# Altium integrated library TI Power Management Supervisor and Reset IC.IntLib: 819 symbols (part 14 of 30)
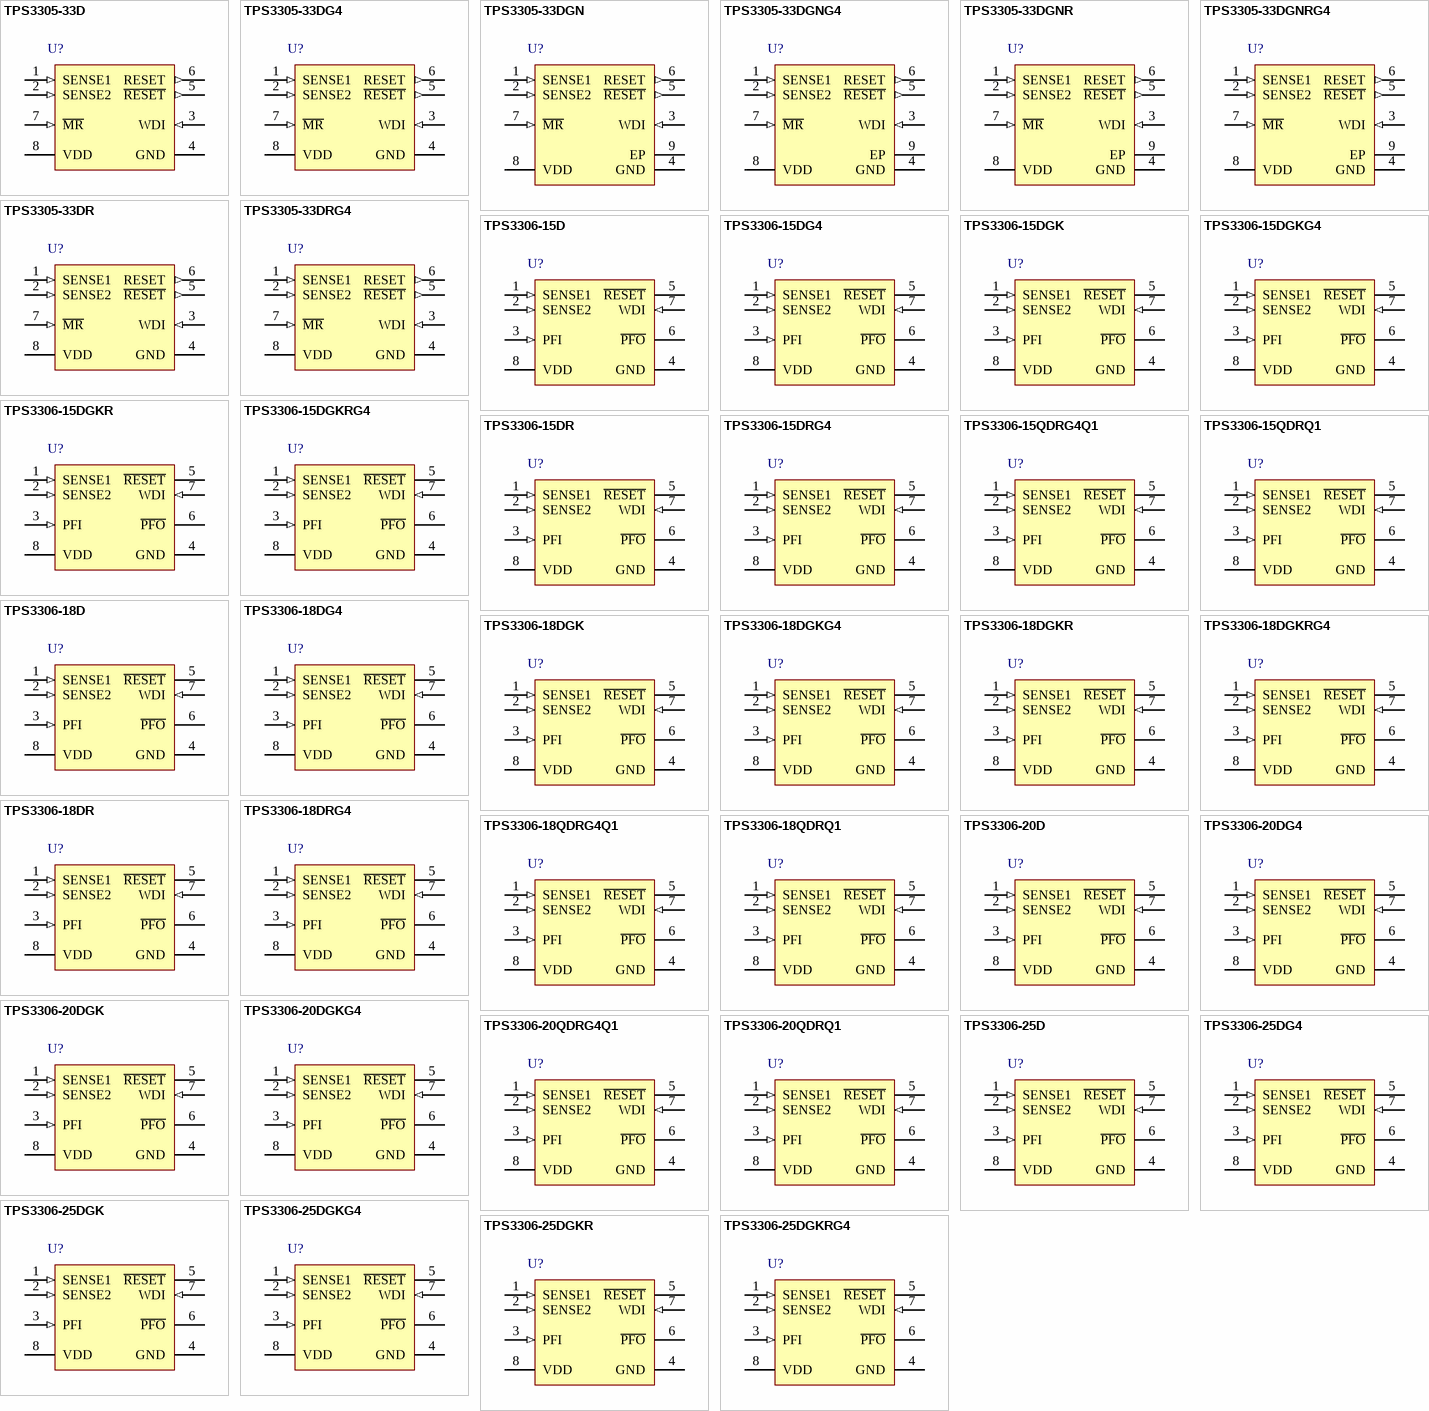
[diagram p34: symbols TPS3305-33D to TPS3306-25DGKRG4]

## TPS3306-18DG4
designator U?
Dual-Processor Supervisory Circuit with Power-Fail, 2 Supply Monitored, -40 to 85 degC, 8-pin SOIC (D), Green (RoHS & no Sb/Br); Manufacturer: Texas Instruments; PartNumber: TPS3306-18DG4; # of supplies monitored: 2; Iq(Typ)(uA): 15; Output Driver Type / Reset Output: Active-low, Open-drain; Rating: Catalog; Reset Threshold Accuracy(%): 2.7; SubFamily: Supervisor and Reset IC; Threshold Voltage 1 (typ)(Typ)(V): 2.93; Threshold Voltage 2 (typ)(Typ)(V): 1.68; Time Delay(ms): 100; VCC(Max)(V): 6; Watchdog Timer WDI(sec): 0.8; DatasheetVersion: SLVS290C; PackageVersion: revM, Jun-2011; PackageReference: D8; PackageDescription: 8-Pin Plastic Small Outline Integrated Circuit, 4.9 x 3.9 mm, Pitch 1.27 mm Pitch; Supplier 1: Digi-Key; Supplier Part Number 1: TPS3306-18DG4-ND; Supplier 2: Newark; Supplier Part Number 2: 33K7600; Supplier 3: Mouser; Supplier Part Number 3: 595-TPS3306-18DG4; VCC(Min)(V): 2.7; Mounting Technology: Surface Mount; Code_JEDEC: MS-012AA; ComponentLink1Description: Datasheet; ComponentLink1URL: http://www.ti.com/general/docs/lit/getliterature.tsp?genericPartNumber=TPS3306-18&fileType=pdf
footprint D8_N (SOIC, 8-Leads, Body 4.9x3.9mm, Pitch 1.27mm, IPC Medium Density)
footprint D8_L (SOIC, 8-Leads, Body 4.9x3.9mm, Pitch 1.27mm, IPC High Density)
footprint D8_M (SOIC, 8-Leads, Body 4.9x3.9mm, Pitch 1.27mm, IPC Low Density)
pins: 1 SENSE1 (in) "Sense voltage input 1", 2 SENSE2 (in) "Sense voltage input 2", 3 PFI (in) "Power-fail comparator input", 4 GND (power) "Ground", 5 ~{RESET} (oc) "Active-low reset output, open-drain", 6 ~{PFO} (oc) "Power-fail comparator output, open-drain", 7 WDI (in) "Watchdog timer input", 8 VDD (power) "Supply voltage"

## TPS3306-18DGK
designator U?
Dual-Processor Supervisory Circuit with Power-Fail, 2 Supply Monitored, -40 to 85 degC, 8-pin VSSOP (DGK), Green (RoHS & no Sb/Br); Manufacturer: Texas Instruments; PartNumber: TPS3306-18DGK; # of supplies monitored: 2; Iq(Typ)(uA): 15; Output Driver Type / Reset Output: Active-low, Open-drain; Rating: Catalog; Reset Threshold Accuracy(%): 2.7; SubFamily: Supervisor and Reset IC; Threshold Voltage 1 (typ)(Typ)(V): 2.93; Threshold Voltage 2 (typ)(Typ)(V): 1.68; Time Delay(ms): 100; VCC(Max)(V): 6; Watchdog Timer WDI(sec): 0.8; DatasheetVersion: SLVS290C; PackageVersion: revE, May-2006; PackageReference: DGK8; PackageDescription: 8-Pin Thin Small Outline Package 3 x 3 mm Body ,0.65 mm Pitch; Supplier 1: Digi-Key; Supplier Part Number 1: 296-3305-5-ND; Supplier 2: Newark; Supplier Part Number 2: 77C0309; Supplier 3: Mouser; Supplier Part Number 3: 595-TPS3306-18DGK; VCC(Min)(V): 2.7; Mounting Technology: Surface Mount; Code_JEDEC: MO-187-AA; ComponentLink1Description: Datasheet; ComponentLink1URL: http://www.ti.com/general/docs/lit/getliterature.tsp?genericPartNumber=TPS3306-18&fileType=pdf
footprint DGK8_N (TSOP, 8-Leads, Body 3x3mm, Pitch 0.65mm, IPC Medium Density)
footprint DGK8_L (TSOP, 8-Leads, Body 3x3mm, Pitch 0.65mm, IPC High Density)
footprint DGK8_M (TSOP, 8-Leads, Body 3x3mm, Pitch 0.65mm, IPC Low Density)
pins: 1 SENSE1 (in) "Sense voltage input 1", 2 SENSE2 (in) "Sense voltage input 2", 3 PFI (in) "Power-fail comparator input", 4 GND (power) "Ground", 5 ~{RESET} (oc) "Active-low reset output, open-drain", 6 ~{PFO} (oc) "Power-fail comparator output, open-drain", 7 WDI (in) "Watchdog timer input", 8 VDD (power) "Supply voltage"

## TPS3306-18DGKG4
designator U?
Dual-Processor Supervisory Circuit with Power-Fail, 2 Supply Monitored, -40 to 85 degC, 8-pin VSSOP (DGK), Green (RoHS & no Sb/Br); Manufacturer: Texas Instruments; PartNumber: TPS3306-18DGKG4; # of supplies monitored: 2; Iq(Typ)(uA): 15; Output Driver Type / Reset Output: Active-low, Open-drain; Rating: Catalog; Reset Threshold Accuracy(%): 2.7; SubFamily: Supervisor and Reset IC; Threshold Voltage 1 (typ)(Typ)(V): 2.93; Threshold Voltage 2 (typ)(Typ)(V): 1.68; Time Delay(ms): 100; VCC(Max)(V): 6; Watchdog Timer WDI(sec): 0.8; DatasheetVersion: SLVS290C; PackageVersion: revE, May-2006; PackageReference: DGK8; PackageDescription: 8-Pin Thin Small Outline Package 3 x 3 mm Body ,0.65 mm Pitch; Supplier 1: Digi-Key; Supplier Part Number 1: TPS3306-18DGKG4-ND; Supplier 2: Newark; Supplier Part Number 2: 54K1620; Supplier 3: Mouser; Supplier Part Number 3: 595-TPS3306-18DGKG4; VCC(Min)(V): 2.7; Mounting Technology: Surface Mount; Code_JEDEC: MO-187-AA; ComponentLink1Description: Datasheet; ComponentLink1URL: http://www.ti.com/general/docs/lit/getliterature.tsp?genericPartNumber=TPS3306-18&fileType=pdf
footprint DGK8_N (TSOP, 8-Leads, Body 3x3mm, Pitch 0.65mm, IPC Medium Density)
footprint DGK8_L (TSOP, 8-Leads, Body 3x3mm, Pitch 0.65mm, IPC High Density)
footprint DGK8_M (TSOP, 8-Leads, Body 3x3mm, Pitch 0.65mm, IPC Low Density)
pins: 1 SENSE1 (in) "Sense voltage input 1", 2 SENSE2 (in) "Sense voltage input 2", 3 PFI (in) "Power-fail comparator input", 4 GND (power) "Ground", 5 ~{RESET} (oc) "Active-low reset output, open-drain", 6 ~{PFO} (oc) "Power-fail comparator output, open-drain", 7 WDI (in) "Watchdog timer input", 8 VDD (power) "Supply voltage"

## TPS3306-18DGKR
designator U?
Dual-Processor Supervisory Circuit with Power-Fail, 2 Supply Monitored, -40 to 85 degC, 8-pin VSSOP (DGK), Green (RoHS & no Sb/Br); Manufacturer: Texas Instruments; PartNumber: TPS3306-18DGKR; # of supplies monitored: 2; Iq(Typ)(uA): 15; Output Driver Type / Reset Output: Active-low, Open-drain; Rating: Catalog; Reset Threshold Accuracy(%): 2.7; SubFamily: Supervisor and Reset IC; Threshold Voltage 1 (typ)(Typ)(V): 2.93; Threshold Voltage 2 (typ)(Typ)(V): 1.68; Time Delay(ms): 100; VCC(Max)(V): 6; Watchdog Timer WDI(sec): 0.8; DatasheetVersion: SLVS290C; PackageVersion: revE, May-2006; PackageReference: DGK8; PackageDescription: 8-Pin Thin Small Outline Package 3 x 3 mm Body ,0.65 mm Pitch; Supplier 1: Digi-Key; Supplier Part Number 1: TPS3306-18DGKR-ND; Supplier 2: Newark; Supplier Part Number 2: 77C0310; Supplier 3: Mouser; Supplier Part Number 3: 595-TPS3306-18DGKR; VCC(Min)(V): 2.7; Mounting Technology: Surface Mount; Code_JEDEC: MO-187-AA; ComponentLink1Description: Datasheet; ComponentLink1URL: http://www.ti.com/general/docs/lit/getliterature.tsp?genericPartNumber=TPS3306-18&fileType=pdf
footprint DGK8_N (TSOP, 8-Leads, Body 3x3mm, Pitch 0.65mm, IPC Medium Density)
footprint DGK8_L (TSOP, 8-Leads, Body 3x3mm, Pitch 0.65mm, IPC High Density)
footprint DGK8_M (TSOP, 8-Leads, Body 3x3mm, Pitch 0.65mm, IPC Low Density)
pins: 1 SENSE1 (in) "Sense voltage input 1", 2 SENSE2 (in) "Sense voltage input 2", 3 PFI (in) "Power-fail comparator input", 4 GND (power) "Ground", 5 ~{RESET} (oc) "Active-low reset output, open-drain", 6 ~{PFO} (oc) "Power-fail comparator output, open-drain", 7 WDI (in) "Watchdog timer input", 8 VDD (power) "Supply voltage"

## TPS3306-18DGKRG4
designator U?
Dual-Processor Supervisory Circuit with Power-Fail, 2 Supply Monitored, -40 to 85 degC, 8-pin VSSOP (DGK), Green (RoHS & no Sb/Br); Manufacturer: Texas Instruments; PartNumber: TPS3306-18DGKRG4; # of supplies monitored: 2; Iq(Typ)(uA): 15; Output Driver Type / Reset Output: Active-low, Open-drain; Rating: Catalog; Reset Threshold Accuracy(%): 2.7; SubFamily: Supervisor and Reset IC; Threshold Voltage 1 (typ)(Typ)(V): 2.93; Threshold Voltage 2 (typ)(Typ)(V): 1.68; Time Delay(ms): 100; VCC(Max)(V): 6; Watchdog Timer WDI(sec): 0.8; DatasheetVersion: SLVS290C; PackageVersion: revE, May-2006; PackageReference: DGK8; PackageDescription: 8-Pin Thin Small Outline Package 3 x 3 mm Body ,0.65 mm Pitch; Supplier 1: Digi-Key; Supplier Part Number 1: TPS3306-18DGKRG4-ND; Supplier 2: Newark; Supplier Part Number 2: 61K1885; Supplier 3: Mouser; Supplier Part Number 3: 595-TPS3306-18DGKRG4; VCC(Min)(V): 2.7; Mounting Technology: Surface Mount; Code_JEDEC: MO-187-AA; ComponentLink1Description: Datasheet; ComponentLink1URL: http://www.ti.com/general/docs/lit/getliterature.tsp?genericPartNumber=TPS3306-18&fileType=pdf
footprint DGK8_N (TSOP, 8-Leads, Body 3x3mm, Pitch 0.65mm, IPC Medium Density)
footprint DGK8_L (TSOP, 8-Leads, Body 3x3mm, Pitch 0.65mm, IPC High Density)
footprint DGK8_M (TSOP, 8-Leads, Body 3x3mm, Pitch 0.65mm, IPC Low Density)
pins: 1 SENSE1 (in) "Sense voltage input 1", 2 SENSE2 (in) "Sense voltage input 2", 3 PFI (in) "Power-fail comparator input", 4 GND (power) "Ground", 5 ~{RESET} (oc) "Active-low reset output, open-drain", 6 ~{PFO} (oc) "Power-fail comparator output, open-drain", 7 WDI (in) "Watchdog timer input", 8 VDD (power) "Supply voltage"

## TPS3306-18DR
designator U?
Dual-Processor Supervisory Circuit with Power-Fail, 2 Supply Monitored, -40 to 85 degC, 8-pin SOIC (D), Green (RoHS & no Sb/Br); Manufacturer: Texas Instruments; PartNumber: TPS3306-18DR; # of supplies monitored: 2; Iq(Typ)(uA): 15; Output Driver Type / Reset Output: Active-low, Open-drain; Rating: Catalog; Reset Threshold Accuracy(%): 2.7; SubFamily: Supervisor and Reset IC; Threshold Voltage 1 (typ)(Typ)(V): 2.93; Threshold Voltage 2 (typ)(Typ)(V): 1.68; Time Delay(ms): 100; VCC(Max)(V): 6; Watchdog Timer WDI(sec): 0.8; DatasheetVersion: SLVS290C; PackageVersion: revM, Jun-2011; PackageReference: D8; PackageDescription: 8-Pin Plastic Small Outline Integrated Circuit, 4.9 x 3.9 mm, Pitch 1.27 mm Pitch; Supplier 1: Digi-Key; Supplier Part Number 1: TPS3306-18DR-ND; Supplier 2: Newark; Supplier Part Number 2: 74C6025; Supplier 3: Mouser; Supplier Part Number 3: 595-TPS3306-18DR; VCC(Min)(V): 2.7; Mounting Technology: Surface Mount; Code_JEDEC: MS-012AA; ComponentLink1Description: Datasheet; ComponentLink1URL: http://www.ti.com/general/docs/lit/getliterature.tsp?genericPartNumber=TPS3306-18&fileType=pdf
footprint D8_N (SOIC, 8-Leads, Body 4.9x3.9mm, Pitch 1.27mm, IPC Medium Density)
footprint D8_L (SOIC, 8-Leads, Body 4.9x3.9mm, Pitch 1.27mm, IPC High Density)
footprint D8_M (SOIC, 8-Leads, Body 4.9x3.9mm, Pitch 1.27mm, IPC Low Density)
pins: 1 SENSE1 (in) "Sense voltage input 1", 2 SENSE2 (in) "Sense voltage input 2", 3 PFI (in) "Power-fail comparator input", 4 GND (power) "Ground", 5 ~{RESET} (oc) "Active-low reset output, open-drain", 6 ~{PFO} (oc) "Power-fail comparator output, open-drain", 7 WDI (in) "Watchdog timer input", 8 VDD (power) "Supply voltage"

## TPS3306-18DRG4
designator U?
Dual-Processor Supervisory Circuit with Power-Fail, 2 Supply Monitored, -40 to 85 degC, 8-pin SOIC (D), Green (RoHS & no Sb/Br); Manufacturer: Texas Instruments; PartNumber: TPS3306-18DRG4; # of supplies monitored: 2; Iq(Typ)(uA): 15; Output Driver Type / Reset Output: Active-low, Open-drain; Rating: Catalog; Reset Threshold Accuracy(%): 2.7; SubFamily: Supervisor and Reset IC; Threshold Voltage 1 (typ)(Typ)(V): 2.93; Threshold Voltage 2 (typ)(Typ)(V): 1.68; Time Delay(ms): 100; VCC(Max)(V): 6; Watchdog Timer WDI(sec): 0.8; DatasheetVersion: SLVS290C; PackageVersion: revM, Jun-2011; PackageReference: D8; PackageDescription: 8-Pin Plastic Small Outline Integrated Circuit, 4.9 x 3.9 mm, Pitch 1.27 mm Pitch; Supplier 1: Digi-Key; Supplier Part Number 1: TPS3306-18DRG4-ND; Supplier 2: Newark; Supplier Part Number 2: 54K1621; Supplier 3: Mouser; Supplier Part Number 3: 595-TPS3306-18DRG4; VCC(Min)(V): 2.7; Mounting Technology: Surface Mount; Code_JEDEC: MS-012AA; ComponentLink1Description: Datasheet; ComponentLink1URL: http://www.ti.com/general/docs/lit/getliterature.tsp?genericPartNumber=TPS3306-18&fileType=pdf
footprint D8_N (SOIC, 8-Leads, Body 4.9x3.9mm, Pitch 1.27mm, IPC Medium Density)
footprint D8_L (SOIC, 8-Leads, Body 4.9x3.9mm, Pitch 1.27mm, IPC High Density)
footprint D8_M (SOIC, 8-Leads, Body 4.9x3.9mm, Pitch 1.27mm, IPC Low Density)
pins: 1 SENSE1 (in) "Sense voltage input 1", 2 SENSE2 (in) "Sense voltage input 2", 3 PFI (in) "Power-fail comparator input", 4 GND (power) "Ground", 5 ~{RESET} (oc) "Active-low reset output, open-drain", 6 ~{PFO} (oc) "Power-fail comparator output, open-drain", 7 WDI (in) "Watchdog timer input", 8 VDD (power) "Supply voltage"

## TPS3306-18QDRG4Q1
designator U?
Automotive Catalog Dual Processor Supervisory Circuit with Power-Fail, 2 Supply Monitored, -40 to 125 degC, 8-pin SOIC (D), Green (RoHS & no Sb/Br); Manufacturer: Texas Instruments; PartNumber: TPS3306-18QDRG4Q1; # of supplies monitored: 2; Iq(Typ)(uA): 15; Output Driver Type / Reset Output: Active-low, Open-drain; Reset Threshold Accuracy(%): 2.7; SubFamily: Supervisor and Reset IC; Threshold Voltage 1 (typ)(Typ)(V): 2.93; Threshold Voltage 2 (typ)(Typ)(V): 1.68; Time Delay(ms): 100; VCC(Max)(V): 6; Watchdog Timer WDI(sec): 0.8; DatasheetVersion: SGLS241B; PackageVersion: revM, Jun-2011; PackageReference: D8; PackageDescription: 8-Pin Plastic Small Outline Integrated Circuit, 4.9 x 3.9 mm, Pitch 1.27 mm Pitch; Supplier 1: Digi-Key; Supplier Part Number 1: TPS3306-18QDRG4Q1-ND; Supplier 2: Mouser; Supplier Part Number 2: 595-TPS330618QDRG4Q1; Rating: Automotive; VCC(Min)(V): 2.7; Mounting Technology: Surface Mount; Code_JEDEC: MS-012AA; ComponentLink1Description: Datasheet; ComponentLink1URL: http://www.ti.com/general/docs/lit/getliterature.tsp?genericPartNumber=TPS3306-18-Q1&fileType=pdf
footprint D8_N (SOIC, 8-Leads, Body 4.9x3.9mm, Pitch 1.27mm, IPC Medium Density)
footprint D8_L (SOIC, 8-Leads, Body 4.9x3.9mm, Pitch 1.27mm, IPC High Density)
footprint D8_M (SOIC, 8-Leads, Body 4.9x3.9mm, Pitch 1.27mm, IPC Low Density)
pins: 1 SENSE1 (in) "Sense voltage 1", 2 SENSE2 (in) "Sense voltage 2", 3 PFI (in) "Power-fail comparator input", 4 GND (power) "Ground", 5 ~{RESET} (oc) "Active-low reset output, open drain", 6 ~{PFO} (oc) "Power-fail comparator output, open drain", 7 WDI (in) "Watchdog timer input", 8 VDD (power) "Supply voltage"

## TPS3306-18QDRQ1
designator U?
Automotive Catalog Dual Processor Supervisory Circuit with Power-Fail, 2 Supply Monitored, -40 to 125 degC, 8-pin SOIC (D), Green (RoHS & no Sb/Br); Manufacturer: Texas Instruments; PartNumber: TPS3306-18QDRQ1; # of supplies monitored: 2; Iq(Typ)(uA): 15; Output Driver Type / Reset Output: Active-low, Open-drain; Reset Threshold Accuracy(%): 2.7; SubFamily: Supervisor and Reset IC; Threshold Voltage 1 (typ)(Typ)(V): 2.93; Threshold Voltage 2 (typ)(Typ)(V): 1.68; Time Delay(ms): 100; VCC(Max)(V): 6; Watchdog Timer WDI(sec): 0.8; DatasheetVersion: SGLS241B; PackageVersion: revM, Jun-2011; PackageReference: D8; PackageDescription: 8-Pin Plastic Small Outline Integrated Circuit, 4.9 x 3.9 mm, Pitch 1.27 mm Pitch; Supplier 1: Digi-Key; Supplier Part Number 1: 296-17848-2-ND; Supplier 2: Digi-Key; Supplier Part Number 2: 296-17848-1-ND; Supplier 3: Digi-Key; Supplier Part Number 3: 296-17848-6-ND; Supplier 4: Newark; Supplier Part Number 4: 10J9755; Supplier 5: Mouser; Supplier Part Number 5: 595-TPS3306-18QDRQ1; Rating: Automotive; VCC(Min)(V): 2.7; Mounting Technology: Surface Mount; Code_JEDEC: MS-012AA; ComponentLink1Description: Datasheet; ComponentLink1URL: http://www.ti.com/general/docs/lit/getliterature.tsp?genericPartNumber=TPS3306-18-Q1&fileType=pdf
footprint D8_N (SOIC, 8-Leads, Body 4.9x3.9mm, Pitch 1.27mm, IPC Medium Density)
footprint D8_L (SOIC, 8-Leads, Body 4.9x3.9mm, Pitch 1.27mm, IPC High Density)
footprint D8_M (SOIC, 8-Leads, Body 4.9x3.9mm, Pitch 1.27mm, IPC Low Density)
pins: 1 SENSE1 (in) "Sense voltage 1", 2 SENSE2 (in) "Sense voltage 2", 3 PFI (in) "Power-fail comparator input", 4 GND (power) "Ground", 5 ~{RESET} (oc) "Active-low reset output, open drain", 6 ~{PFO} (oc) "Power-fail comparator output, open drain", 7 WDI (in) "Watchdog timer input", 8 VDD (power) "Supply voltage"

## TPS3306-20D
designator U?
Dual-Processor Supervisory Circuit with Power-Fail, 2 Supply Monitored, -40 to 85 degC, 8-pin SOIC (D), Green (RoHS & no Sb/Br); Manufacturer: Texas Instruments; PartNumber: TPS3306-20D; # of supplies monitored: 2; Iq(Typ)(uA): 15; Output Driver Type / Reset Output: Active-low, Open-drain; Rating: Catalog; Reset Threshold Accuracy(%): 2.7; SubFamily: Supervisor and Reset IC; Threshold Voltage 1 (typ)(Typ)(V): 2.93; Threshold Voltage 2 (typ)(Typ)(V): 1.85; Time Delay(ms): 100; VCC(Max)(V): 6; Watchdog Timer WDI(sec): 0.8; DatasheetVersion: SLVS290C; PackageVersion: revM, Jun-2011; PackageReference: D8; PackageDescription: 8-Pin Plastic Small Outline Integrated Circuit, 4.9 x 3.9 mm, Pitch 1.27 mm Pitch; Supplier 1: Digi-Key; Supplier Part Number 1: 296-3306-5-ND; Supplier 2: Newark; Supplier Part Number 2: 77C0311; Supplier 3: Mouser; Supplier Part Number 3: 595-TPS3306-20D; VCC(Min)(V): 2.7; Mounting Technology: Surface Mount; Code_JEDEC: MS-012AA; ComponentLink1Description: Datasheet; ComponentLink1URL: http://www.ti.com/general/docs/lit/getliterature.tsp?genericPartNumber=TPS3306-20&fileType=pdf
footprint D8_N (SOIC, 8-Leads, Body 4.9x3.9mm, Pitch 1.27mm, IPC Medium Density)
footprint D8_L (SOIC, 8-Leads, Body 4.9x3.9mm, Pitch 1.27mm, IPC High Density)
footprint D8_M (SOIC, 8-Leads, Body 4.9x3.9mm, Pitch 1.27mm, IPC Low Density)
pins: 1 SENSE1 (in) "Sense voltage input 1", 2 SENSE2 (in) "Sense voltage input 2", 3 PFI (in) "Power-fail comparator input", 4 GND (power) "Ground", 5 ~{RESET} (oc) "Active-low reset output, open-drain", 6 ~{PFO} (oc) "Power-fail comparator output, open-drain", 7 WDI (in) "Watchdog timer input", 8 VDD (power) "Supply voltage"

## TPS3306-20DG4
designator U?
Dual-Processor Supervisory Circuit with Power-Fail, 2 Supply Monitored, -40 to 85 degC, 8-pin SOIC (D), Green (RoHS & no Sb/Br); Manufacturer: Texas Instruments; PartNumber: TPS3306-20DG4; # of supplies monitored: 2; Iq(Typ)(uA): 15; Output Driver Type / Reset Output: Active-low, Open-drain; Rating: Catalog; Reset Threshold Accuracy(%): 2.7; SubFamily: Supervisor and Reset IC; Threshold Voltage 1 (typ)(Typ)(V): 2.93; Threshold Voltage 2 (typ)(Typ)(V): 1.85; Time Delay(ms): 100; VCC(Max)(V): 6; Watchdog Timer WDI(sec): 0.8; DatasheetVersion: SLVS290C; PackageVersion: revM, Jun-2011; PackageReference: D8; PackageDescription: 8-Pin Plastic Small Outline Integrated Circuit, 4.9 x 3.9 mm, Pitch 1.27 mm Pitch; Supplier 1: Digi-Key; Supplier Part Number 1: TPS3306-20DG4-ND; Supplier 2: Newark; Supplier Part Number 2: 33K7601; Supplier 3: Mouser; Supplier Part Number 3: 595-TPS3306-20DG4; VCC(Min)(V): 2.7; Mounting Technology: Surface Mount; Code_JEDEC: MS-012AA; ComponentLink1Description: Datasheet; ComponentLink1URL: http://www.ti.com/general/docs/lit/getliterature.tsp?genericPartNumber=TPS3306-20&fileType=pdf
footprint D8_N (SOIC, 8-Leads, Body 4.9x3.9mm, Pitch 1.27mm, IPC Medium Density)
footprint D8_L (SOIC, 8-Leads, Body 4.9x3.9mm, Pitch 1.27mm, IPC High Density)
footprint D8_M (SOIC, 8-Leads, Body 4.9x3.9mm, Pitch 1.27mm, IPC Low Density)
pins: 1 SENSE1 (in) "Sense voltage input 1", 2 SENSE2 (in) "Sense voltage input 2", 3 PFI (in) "Power-fail comparator input", 4 GND (power) "Ground", 5 ~{RESET} (oc) "Active-low reset output, open-drain", 6 ~{PFO} (oc) "Power-fail comparator output, open-drain", 7 WDI (in) "Watchdog timer input", 8 VDD (power) "Supply voltage"

## TPS3306-20DGK
designator U?
Dual-Processor Supervisory Circuit with Power-Fail, 2 Supply Monitored, -40 to 85 degC, 8-pin VSSOP (DGK); Manufacturer: Texas Instruments; PartNumber: TPS3306-20DGK; # of supplies monitored: 2; Iq(Typ)(uA): 15; Output Driver Type / Reset Output: Active-low, Open-drain; Rating: Catalog; Reset Threshold Accuracy(%): 2.7; SubFamily: Supervisor and Reset IC; Threshold Voltage 1 (typ)(Typ)(V): 2.93; Threshold Voltage 2 (typ)(Typ)(V): 1.85; Time Delay(ms): 100; VCC(Max)(V): 6; Watchdog Timer WDI(sec): 0.8; DatasheetVersion: SLVS290C; PackageVersion: revE, May-2006; PackageReference: DGK8; PackageDescription: 8-Pin Thin Small Outline Package 3 x 3 mm Body ,0.65 mm Pitch; Supplier 1: Digi-Key; Supplier Part Number 1: 296-3307-5-ND; Supplier 2: Newark; Supplier Part Number 2: 77C0312; Supplier 3: Mouser; Supplier Part Number 3: 595-TPS3306-20DGK; VCC(Min)(V): 2.7; Mounting Technology: Surface Mount; Code_JEDEC: MO-187-AA; ComponentLink1Description: Datasheet; ComponentLink1URL: http://www.ti.com/general/docs/lit/getliterature.tsp?genericPartNumber=TPS3306-20&fileType=pdf
footprint DGK8_N (TSOP, 8-Leads, Body 3x3mm, Pitch 0.65mm, IPC Medium Density)
footprint DGK8_L (TSOP, 8-Leads, Body 3x3mm, Pitch 0.65mm, IPC High Density)
footprint DGK8_M (TSOP, 8-Leads, Body 3x3mm, Pitch 0.65mm, IPC Low Density)
pins: 1 SENSE1 (in) "Sense voltage input 1", 2 SENSE2 (in) "Sense voltage input 2", 3 PFI (in) "Power-fail comparator input", 4 GND (power) "Ground", 5 ~{RESET} (oc) "Active-low reset output, open-drain", 6 ~{PFO} (oc) "Power-fail comparator output, open-drain", 7 WDI (in) "Watchdog timer input", 8 VDD (power) "Supply voltage"

## TPS3306-20DGKG4
designator U?
Dual-Processor Supervisory Circuit with Power-Fail, 2 Supply Monitored, -40 to 85 degC, 8-pin VSSOP (DGK); Manufacturer: Texas Instruments; PartNumber: TPS3306-20DGKG4; # of supplies monitored: 2; Iq(Typ)(uA): 15; Output Driver Type / Reset Output: Active-low, Open-drain; Rating: Catalog; Reset Threshold Accuracy(%): 2.7; SubFamily: Supervisor and Reset IC; Threshold Voltage 1 (typ)(Typ)(V): 2.93; Threshold Voltage 2 (typ)(Typ)(V): 1.85; Time Delay(ms): 100; VCC(Max)(V): 6; Watchdog Timer WDI(sec): 0.8; DatasheetVersion: SLVS290C; PackageVersion: revE, May-2006; PackageReference: DGK8; PackageDescription: 8-Pin Thin Small Outline Package 3 x 3 mm Body ,0.65 mm Pitch; Supplier 1: Digi-Key; Supplier Part Number 1: TPS3306-20DGKG4-ND; Supplier 2: Newark; Supplier Part Number 2: 61K1886; Supplier 3: Mouser; Supplier Part Number 3: 595-TPS3306-20DGKG4; VCC(Min)(V): 2.7; Mounting Technology: Surface Mount; Code_JEDEC: MO-187-AA; ComponentLink1Description: Datasheet; ComponentLink1URL: http://www.ti.com/general/docs/lit/getliterature.tsp?genericPartNumber=TPS3306-20&fileType=pdf
footprint DGK8_N (TSOP, 8-Leads, Body 3x3mm, Pitch 0.65mm, IPC Medium Density)
footprint DGK8_L (TSOP, 8-Leads, Body 3x3mm, Pitch 0.65mm, IPC High Density)
footprint DGK8_M (TSOP, 8-Leads, Body 3x3mm, Pitch 0.65mm, IPC Low Density)
pins: 1 SENSE1 (in) "Sense voltage input 1", 2 SENSE2 (in) "Sense voltage input 2", 3 PFI (in) "Power-fail comparator input", 4 GND (power) "Ground", 5 ~{RESET} (oc) "Active-low reset output, open-drain", 6 ~{PFO} (oc) "Power-fail comparator output, open-drain", 7 WDI (in) "Watchdog timer input", 8 VDD (power) "Supply voltage"

## TPS3306-20QDRG4Q1
designator U?
Automotive Catalog Dual Processor Supervisory Circuit with Power-Fail, 2 Supply Monitored, -40 to 125 degC, 8-pin SOIC (D), Green (RoHS & no Sb/Br); Manufacturer: Texas Instruments; PartNumber: TPS3306-20QDRG4Q1; # of supplies monitored: 2; Iq(Typ)(uA): 15; Output Driver Type / Reset Output: Active-low, Open-drain; Reset Threshold Accuracy(%): 2.7; SubFamily: Supervisor and Reset IC; Threshold Voltage 1 (typ)(Typ)(V): 2.93; Threshold Voltage 2 (typ)(Typ)(V): 1.85; Time Delay(ms): 100; VCC(Max)(V): 6; Watchdog Timer WDI(sec): 0.8; DatasheetVersion: SGLS241B; PackageVersion: revM, Jun-2011; PackageReference: D8; PackageDescription: 8-Pin Plastic Small Outline Integrated Circuit, 4.9 x 3.9 mm, Pitch 1.27 mm Pitch; Supplier 1: Digi-Key; Supplier Part Number 1: TPS3306-20QDRG4Q1-ND; Supplier 2: Mouser; Supplier Part Number 2: 595-TPS330620QDRG4Q1; Rating: Automotive; VCC(Min)(V): 2.7; Mounting Technology: Surface Mount; Code_JEDEC: MS-012AA; ComponentLink1Description: Datasheet; ComponentLink1URL: http://www.ti.com/general/docs/lit/getliterature.tsp?genericPartNumber=TPS3306-20-Q1&fileType=pdf
footprint D8_N (SOIC, 8-Leads, Body 4.9x3.9mm, Pitch 1.27mm, IPC Medium Density)
footprint D8_L (SOIC, 8-Leads, Body 4.9x3.9mm, Pitch 1.27mm, IPC High Density)
footprint D8_M (SOIC, 8-Leads, Body 4.9x3.9mm, Pitch 1.27mm, IPC Low Density)
pins: 1 SENSE1 (in) "Sense voltage 1", 2 SENSE2 (in) "Sense voltage 2", 3 PFI (in) "Power-fail comparator input", 4 GND (power) "Ground", 5 ~{RESET} (oc) "Active-low reset output, open drain", 6 ~{PFO} (oc) "Power-fail comparator output, open drain", 7 WDI (in) "Watchdog timer input", 8 VDD (power) "Supply voltage"

## TPS3306-20QDRQ1
designator U?
Automotive Catalog Dual Processor Supervisory Circuit with Power-Fail, 2 Supply Monitored, -40 to 125 degC, 8-pin SOIC (D); Manufacturer: Texas Instruments; PartNumber: TPS3306-20QDRQ1; # of supplies monitored: 2; Iq(Typ)(uA): 15; Output Driver Type / Reset Output: Active-low, Open-drain; Reset Threshold Accuracy(%): 2.7; SubFamily: Supervisor and Reset IC; Threshold Voltage 1 (typ)(Typ)(V): 2.93; Threshold Voltage 2 (typ)(Typ)(V): 1.85; Time Delay(ms): 100; VCC(Max)(V): 6; Watchdog Timer WDI(sec): 0.8; DatasheetVersion: SGLS241B; PackageVersion: revM, Jun-2011; PackageReference: D8; PackageDescription: 8-Pin Plastic Small Outline Integrated Circuit, 4.9 x 3.9 mm, Pitch 1.27 mm Pitch; Supplier 1: Digi-Key; Supplier Part Number 1: TPS3306-20QDRQ1-ND; Supplier 2: Mouser; Supplier Part Number 2: 595-TPS3306-20QDRQ1; Rating: Automotive; VCC(Min)(V): 2.7; Mounting Technology: Surface Mount; Code_JEDEC: MS-012AA; ComponentLink1Description: Datasheet; ComponentLink1URL: http://www.ti.com/general/docs/lit/getliterature.tsp?genericPartNumber=TPS3306-20-Q1&fileType=pdf
footprint D8_N (SOIC, 8-Leads, Body 4.9x3.9mm, Pitch 1.27mm, IPC Medium Density)
footprint D8_L (SOIC, 8-Leads, Body 4.9x3.9mm, Pitch 1.27mm, IPC High Density)
footprint D8_M (SOIC, 8-Leads, Body 4.9x3.9mm, Pitch 1.27mm, IPC Low Density)
pins: 1 SENSE1 (in) "Sense voltage 1", 2 SENSE2 (in) "Sense voltage 2", 3 PFI (in) "Power-fail comparator input", 4 GND (power) "Ground", 5 ~{RESET} (oc) "Active-low reset output, open drain", 6 ~{PFO} (oc) "Power-fail comparator output, open drain", 7 WDI (in) "Watchdog timer input", 8 VDD (power) "Supply voltage"

## TPS3306-25D
designator U?
Dual-Processor Supervisory Circuit with Power-Fail, 2 Supply Monitored, -40 to 85 degC, 8-pin SOIC (D), Green (RoHS & no Sb/Br); Manufacturer: Texas Instruments; PartNumber: TPS3306-25D; # of supplies monitored: 2; Iq(Typ)(uA): 15; Output Driver Type / Reset Output: Active-low, Open-drain; Rating: Catalog; Reset Threshold Accuracy(%): 2.7; SubFamily: Supervisor and Reset IC; Threshold Voltage 1 (typ)(Typ)(V): 2.93; Threshold Voltage 2 (typ)(Typ)(V): 2.25; Time Delay(ms): 100; VCC(Max)(V): 6; Watchdog Timer WDI(sec): 0.8; DatasheetVersion: SLVS290C; PackageVersion: revM, Jun-2011; PackageReference: D8; PackageDescription: 8-Pin Plastic Small Outline Integrated Circuit, 4.9 x 3.9 mm, Pitch 1.27 mm Pitch; Supplier 1: Digi-Key; Supplier Part Number 1: 296-3308-5-ND; Supplier 2: Newark; Supplier Part Number 2: 77C0315; Supplier 3: Mouser; Supplier Part Number 3: 595-TPS3306-25D; VCC(Min)(V): 2.7; Mounting Technology: Surface Mount; Code_JEDEC: MS-012AA; ComponentLink1Description: Datasheet; ComponentLink1URL: http://www.ti.com/general/docs/lit/getliterature.tsp?genericPartNumber=TPS3306-25&fileType=pdf
footprint D8_N (SOIC, 8-Leads, Body 4.9x3.9mm, Pitch 1.27mm, IPC Medium Density)
footprint D8_L (SOIC, 8-Leads, Body 4.9x3.9mm, Pitch 1.27mm, IPC High Density)
footprint D8_M (SOIC, 8-Leads, Body 4.9x3.9mm, Pitch 1.27mm, IPC Low Density)
pins: 1 SENSE1 (in) "Sense voltage input 1", 2 SENSE2 (in) "Sense voltage input 2", 3 PFI (in) "Power-fail comparator input", 4 GND (power) "Ground", 5 ~{RESET} (oc) "Active-low reset output, open-drain", 6 ~{PFO} (oc) "Power-fail comparator output, open-drain", 7 WDI (in) "Watchdog timer input", 8 VDD (power) "Supply voltage"

## TPS3306-25DG4
designator U?
Dual-Processor Supervisory Circuit with Power-Fail, 2 Supply Monitored, -40 to 85 degC, 8-pin SOIC (D), Green (RoHS & no Sb/Br); Manufacturer: Texas Instruments; PartNumber: TPS3306-25DG4; # of supplies monitored: 2; Iq(Typ)(uA): 15; Output Driver Type / Reset Output: Active-low, Open-drain; Rating: Catalog; Reset Threshold Accuracy(%): 2.7; SubFamily: Supervisor and Reset IC; Threshold Voltage 1 (typ)(Typ)(V): 2.93; Threshold Voltage 2 (typ)(Typ)(V): 2.25; Time Delay(ms): 100; VCC(Max)(V): 6; Watchdog Timer WDI(sec): 0.8; DatasheetVersion: SLVS290C; PackageVersion: revM, Jun-2011; PackageReference: D8; PackageDescription: 8-Pin Plastic Small Outline Integrated Circuit, 4.9 x 3.9 mm, Pitch 1.27 mm Pitch; Supplier 1: Digi-Key; Supplier Part Number 1: TPS3306-25DG4-ND; Supplier 2: Newark; Supplier Part Number 2: 54K1625; Supplier 3: Mouser; Supplier Part Number 3: 595-TPS3306-25DG4; VCC(Min)(V): 2.7; Mounting Technology: Surface Mount; Code_JEDEC: MS-012AA; ComponentLink1Description: Datasheet; ComponentLink1URL: http://www.ti.com/general/docs/lit/getliterature.tsp?genericPartNumber=TPS3306-25&fileType=pdf
footprint D8_N (SOIC, 8-Leads, Body 4.9x3.9mm, Pitch 1.27mm, IPC Medium Density)
footprint D8_L (SOIC, 8-Leads, Body 4.9x3.9mm, Pitch 1.27mm, IPC High Density)
footprint D8_M (SOIC, 8-Leads, Body 4.9x3.9mm, Pitch 1.27mm, IPC Low Density)
pins: 1 SENSE1 (in) "Sense voltage input 1", 2 SENSE2 (in) "Sense voltage input 2", 3 PFI (in) "Power-fail comparator input", 4 GND (power) "Ground", 5 ~{RESET} (oc) "Active-low reset output, open-drain", 6 ~{PFO} (oc) "Power-fail comparator output, open-drain", 7 WDI (in) "Watchdog timer input", 8 VDD (power) "Supply voltage"

## TPS3306-25DGK
designator U?
Dual-Processor Supervisory Circuit with Power-Fail, 2 Supply Monitored, -40 to 85 degC, 8-pin MSOP (DGK), Green (RoHS & no Sb/Br); Manufacturer: Texas Instruments; PartNumber: TPS3306-25DGK; # of supplies monitored: 2; Iq(Typ)(uA): 15; Output Driver Type / Reset Output: Active-low, Open-drain; Rating: Catalog; Reset Threshold Accuracy(%): 2.7; SubFamily: Supervisor and Reset IC; Threshold Voltage 1 (typ)(Typ)(V): 2.93; Threshold Voltage 2 (typ)(Typ)(V): 2.25; Time Delay(ms): 100; VCC(Max)(V): 6; Watchdog Timer WDI(sec): 0.8; DatasheetVersion: SLVS290C; PackageVersion: revE, May-2006; PackageReference: DGK8; PackageDescription: 8-Pin Thin Small Outline Package 3 x 3 mm Body ,0.65 mm Pitch; Supplier 1: Digi-Key; Supplier Part Number 1: 296-3309-5-ND; Supplier 2: Farnell; Supplier Part Number 2: 1510456; Supplier 3: Newark; Supplier Part Number 3: 77C0316; Supplier 4: Mouser; Supplier Part Number 4: 595-TPS3306-25DGK; VCC(Min)(V): 2.7; Mounting Technology: Surface Mount; Code_JEDEC: MO-187-AA; ComponentLink1Description: Datasheet; ComponentLink1URL: http://www.ti.com/general/docs/lit/getliterature.tsp?genericPartNumber=TPS3306-25&fileType=pdf
footprint DGK8_N (TSOP, 8-Leads, Body 3x3mm, Pitch 0.65mm, IPC Medium Density)
footprint DGK8_L (TSOP, 8-Leads, Body 3x3mm, Pitch 0.65mm, IPC High Density)
footprint DGK8_M (TSOP, 8-Leads, Body 3x3mm, Pitch 0.65mm, IPC Low Density)
pins: 1 SENSE1 (in) "Sense voltage input 1", 2 SENSE2 (in) "Sense voltage input 2", 3 PFI (in) "Power-fail comparator input", 4 GND (power) "Ground", 5 ~{RESET} (oc) "Active-low reset output, open-drain", 6 ~{PFO} (oc) "Power-fail comparator output, open-drain", 7 WDI (in) "Watchdog timer input", 8 VDD (power) "Supply voltage"

## TPS3306-25DGKG4
designator U?
Dual-Processor Supervisory Circuit with Power-Fail, 2 Supply Monitored, -40 to 85 degC, 8-pin MSOP (DGK), Green (RoHS & no Sb/Br); Manufacturer: Texas Instruments; PartNumber: TPS3306-25DGKG4; # of supplies monitored: 2; Iq(Typ)(uA): 15; Output Driver Type / Reset Output: Active-low, Open-drain; Rating: Catalog; Reset Threshold Accuracy(%): 2.7; SubFamily: Supervisor and Reset IC; Threshold Voltage 1 (typ)(Typ)(V): 2.93; Threshold Voltage 2 (typ)(Typ)(V): 2.25; Time Delay(ms): 100; VCC(Max)(V): 6; Watchdog Timer WDI(sec): 0.8; DatasheetVersion: SLVS290C; PackageVersion: revE, May-2006; PackageReference: DGK8; PackageDescription: 8-Pin Thin Small Outline Package 3 x 3 mm Body ,0.65 mm Pitch; Supplier 1: Digi-Key; Supplier Part Number 1: TPS3306-25DGKG4-ND; Supplier 2: Newark; Supplier Part Number 2: 54K1623; Supplier 3: Mouser; Supplier Part Number 3: 595-TPS3306-25DGKG4; VCC(Min)(V): 2.7; Mounting Technology: Surface Mount; Code_JEDEC: MO-187-AA; ComponentLink1Description: Datasheet; ComponentLink1URL: http://www.ti.com/general/docs/lit/getliterature.tsp?genericPartNumber=TPS3306-25&fileType=pdf
footprint DGK8_N (TSOP, 8-Leads, Body 3x3mm, Pitch 0.65mm, IPC Medium Density)
footprint DGK8_L (TSOP, 8-Leads, Body 3x3mm, Pitch 0.65mm, IPC High Density)
footprint DGK8_M (TSOP, 8-Leads, Body 3x3mm, Pitch 0.65mm, IPC Low Density)
pins: 1 SENSE1 (in) "Sense voltage input 1", 2 SENSE2 (in) "Sense voltage input 2", 3 PFI (in) "Power-fail comparator input", 4 GND (power) "Ground", 5 ~{RESET} (oc) "Active-low reset output, open-drain", 6 ~{PFO} (oc) "Power-fail comparator output, open-drain", 7 WDI (in) "Watchdog timer input", 8 VDD (power) "Supply voltage"

## TPS3306-25DGKR
designator U?
Dual-Processor Supervisory Circuit with Power-Fail, 2 Supply Monitored, -40 to 85 degC, 8-pin MSOP (DGK), Green (RoHS & no Sb/Br); Manufacturer: Texas Instruments; PartNumber: TPS3306-25DGKR; # of supplies monitored: 2; Iq(Typ)(uA): 15; Output Driver Type / Reset Output: Active-low, Open-drain; Rating: Catalog; Reset Threshold Accuracy(%): 2.7; SubFamily: Supervisor and Reset IC; Threshold Voltage 1 (typ)(Typ)(V): 2.93; Threshold Voltage 2 (typ)(Typ)(V): 2.25; Time Delay(ms): 100; VCC(Max)(V): 6; Watchdog Timer WDI(sec): 0.8; DatasheetVersion: SLVS290C; PackageVersion: revE, May-2006; PackageReference: DGK8; PackageDescription: 8-Pin Thin Small Outline Package 3 x 3 mm Body ,0.65 mm Pitch; Supplier 1: Digi-Key; Supplier Part Number 1: TPS3306-25DGKR-ND; Supplier 2: Newark; Supplier Part Number 2: 77C0317; Supplier 3: Mouser; Supplier Part Number 3: 595-TPS3306-25DGKR; VCC(Min)(V): 2.7; Mounting Technology: Surface Mount; Code_JEDEC: MO-187-AA; ComponentLink1Description: Datasheet; ComponentLink1URL: http://www.ti.com/general/docs/lit/getliterature.tsp?genericPartNumber=TPS3306-25&fileType=pdf
footprint DGK8_N (TSOP, 8-Leads, Body 3x3mm, Pitch 0.65mm, IPC Medium Density)
footprint DGK8_L (TSOP, 8-Leads, Body 3x3mm, Pitch 0.65mm, IPC High Density)
footprint DGK8_M (TSOP, 8-Leads, Body 3x3mm, Pitch 0.65mm, IPC Low Density)
pins: 1 SENSE1 (in) "Sense voltage input 1", 2 SENSE2 (in) "Sense voltage input 2", 3 PFI (in) "Power-fail comparator input", 4 GND (power) "Ground", 5 ~{RESET} (oc) "Active-low reset output, open-drain", 6 ~{PFO} (oc) "Power-fail comparator output, open-drain", 7 WDI (in) "Watchdog timer input", 8 VDD (power) "Supply voltage"

## TPS3306-25DGKRG4
designator U?
Dual-Processor Supervisory Circuit with Power-Fail, 2 Supply Monitored, -40 to 85 degC, 8-pin MSOP (DGK), Green (RoHS & no Sb/Br); Manufacturer: Texas Instruments; PartNumber: TPS3306-25DGKRG4; # of supplies monitored: 2; Iq(Typ)(uA): 15; Output Driver Type / Reset Output: Active-low, Open-drain; Rating: Catalog; Reset Threshold Accuracy(%): 2.7; SubFamily: Supervisor and Reset IC; Threshold Voltage 1 (typ)(Typ)(V): 2.93; Threshold Voltage 2 (typ)(Typ)(V): 2.25; Time Delay(ms): 100; VCC(Max)(V): 6; Watchdog Timer WDI(sec): 0.8; DatasheetVersion: SLVS290C; PackageVersion: revE, May-2006; PackageReference: DGK8; PackageDescription: 8-Pin Thin Small Outline Package 3 x 3 mm Body ,0.65 mm Pitch; Supplier 1: Digi-Key; Supplier Part Number 1: TPS3306-25DGKRG4-ND; Supplier 2: Newark; Supplier Part Number 2: 54K1624; Supplier 3: Mouser; Supplier Part Number 3: 595-TPS3306-25DGKRG4; VCC(Min)(V): 2.7; Mounting Technology: Surface Mount; Code_JEDEC: MO-187-AA; ComponentLink1Description: Datasheet; ComponentLink1URL: http://www.ti.com/general/docs/lit/getliterature.tsp?genericPartNumber=TPS3306-25&fileType=pdf
footprint DGK8_N (TSOP, 8-Leads, Body 3x3mm, Pitch 0.65mm, IPC Medium Density)
footprint DGK8_L (TSOP, 8-Leads, Body 3x3mm, Pitch 0.65mm, IPC High Density)
footprint DGK8_M (TSOP, 8-Leads, Body 3x3mm, Pitch 0.65mm, IPC Low Density)
pins: 1 SENSE1 (in) "Sense voltage input 1", 2 SENSE2 (in) "Sense voltage input 2", 3 PFI (in) "Power-fail comparator input", 4 GND (power) "Ground", 5 ~{RESET} (oc) "Active-low reset output, open-drain", 6 ~{PFO} (oc) "Power-fail comparator output, open-drain", 7 WDI (in) "Watchdog timer input", 8 VDD (power) "Supply voltage"

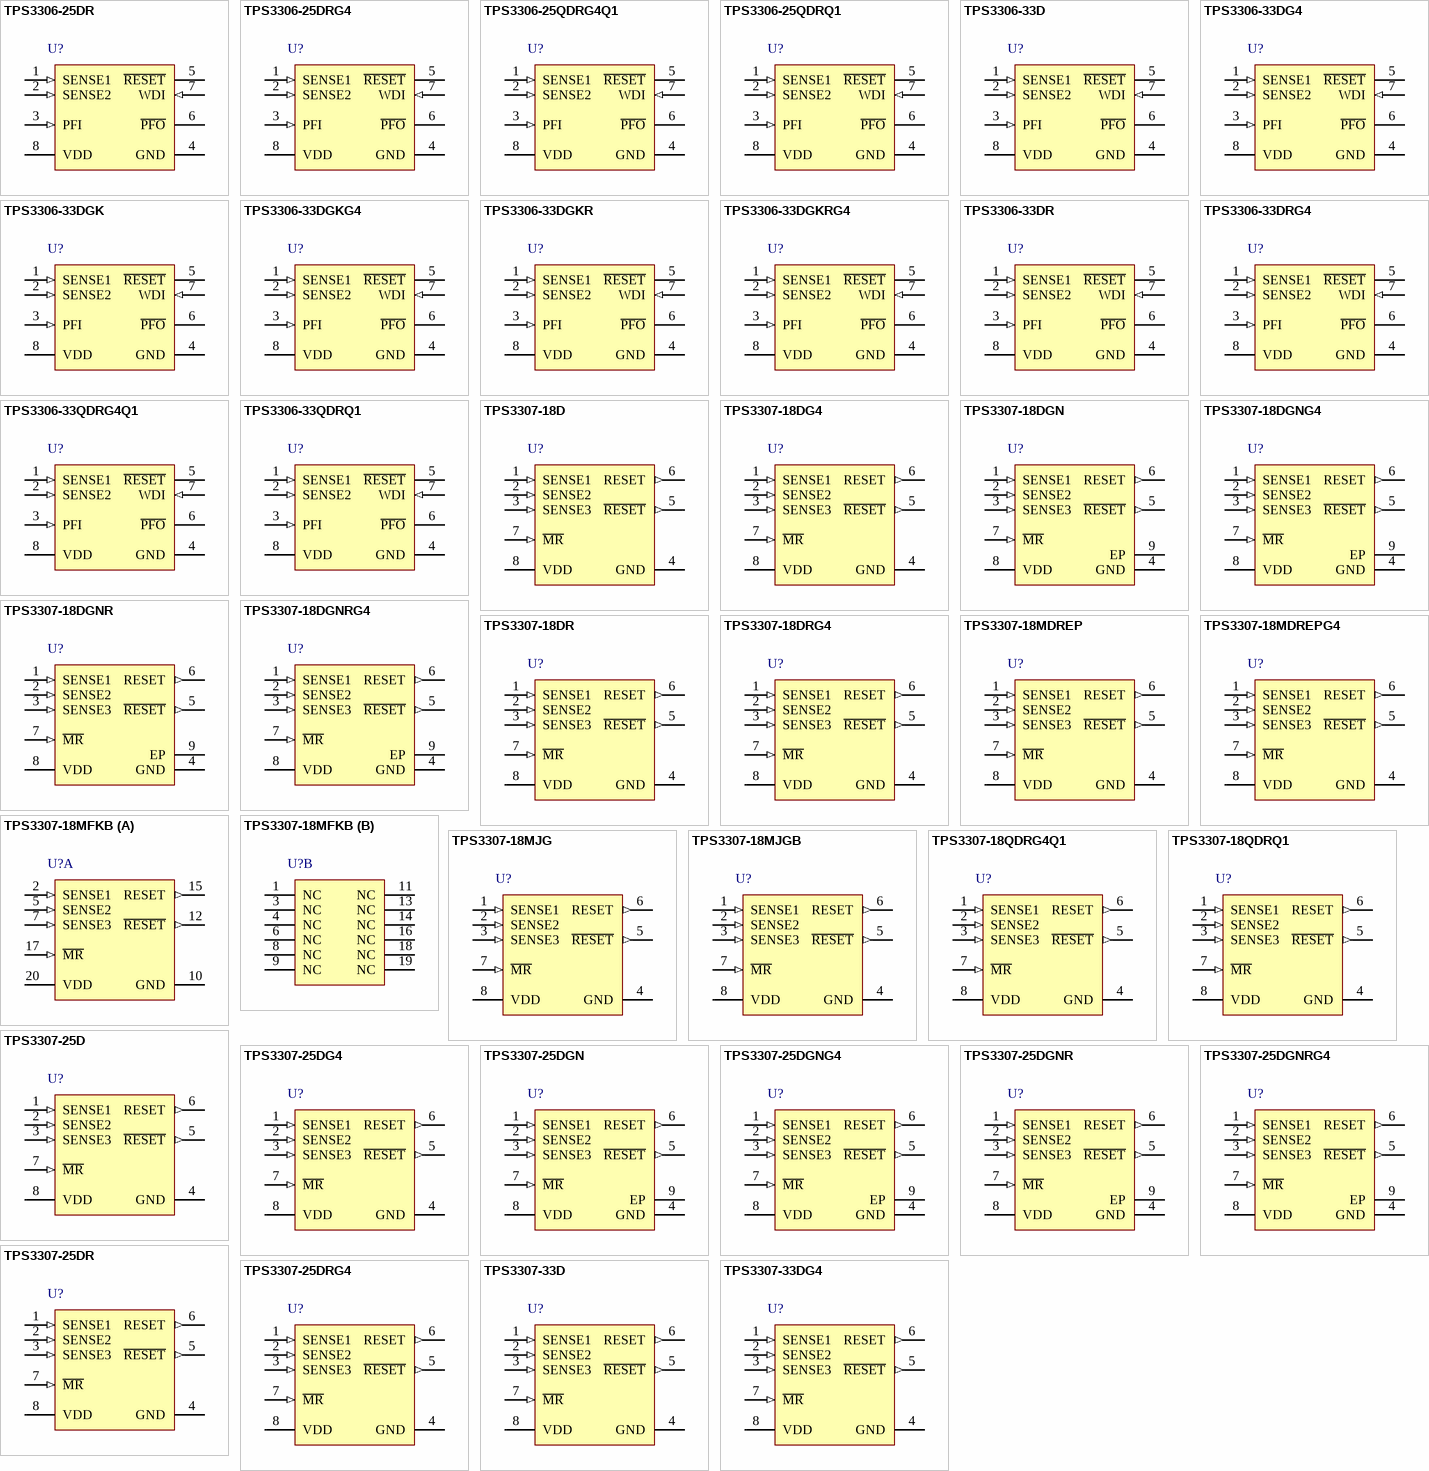
[diagram p11: symbols TPS3306-25DR to TPS3307-33DG4]

## TPS3306-25DR
designator U?
Dual-Processor Supervisory Circuit with Power-Fail, 2 Supply Monitored, -40 to 85 degC, 8-pin SOIC (D), Green (RoHS & no Sb/Br); Manufacturer: Texas Instruments; PartNumber: TPS3306-25DR; # of supplies monitored: 2; Iq(Typ)(uA): 15; Output Driver Type / Reset Output: Active-low, Open-drain; Rating: Catalog; Reset Threshold Accuracy(%): 2.7; SubFamily: Supervisor and Reset IC; Threshold Voltage 1 (typ)(Typ)(V): 2.93; Threshold Voltage 2 (typ)(Typ)(V): 2.25; Time Delay(ms): 100; VCC(Max)(V): 6; Watchdog Timer WDI(sec): 0.8; DatasheetVersion: SLVS290C; PackageVersion: revM, Jun-2011; PackageReference: D8; PackageDescription: 8-Pin Plastic Small Outline Integrated Circuit, 4.9 x 3.9 mm, Pitch 1.27 mm Pitch; Supplier 1: Digi-Key; Supplier Part Number 1: TPS3306-25DR-ND; Supplier 2: Newark; Supplier Part Number 2: 77C0318; Supplier 3: Mouser; Supplier Part Number 3: 595-TPS3306-25DR; VCC(Min)(V): 2.7; Mounting Technology: Surface Mount; Code_JEDEC: MS-012AA; ComponentLink1Description: Datasheet; ComponentLink1URL: http://www.ti.com/general/docs/lit/getliterature.tsp?genericPartNumber=TPS3306-25&fileType=pdf
footprint D8_N (SOIC, 8-Leads, Body 4.9x3.9mm, Pitch 1.27mm, IPC Medium Density)
footprint D8_L (SOIC, 8-Leads, Body 4.9x3.9mm, Pitch 1.27mm, IPC High Density)
footprint D8_M (SOIC, 8-Leads, Body 4.9x3.9mm, Pitch 1.27mm, IPC Low Density)
pins: 1 SENSE1 (in) "Sense voltage input 1", 2 SENSE2 (in) "Sense voltage input 2", 3 PFI (in) "Power-fail comparator input", 4 GND (power) "Ground", 5 ~{RESET} (oc) "Active-low reset output, open-drain", 6 ~{PFO} (oc) "Power-fail comparator output, open-drain", 7 WDI (in) "Watchdog timer input", 8 VDD (power) "Supply voltage"

## TPS3306-25DRG4
designator U?
Dual-Processor Supervisory Circuit with Power-Fail, 2 Supply Monitored, -40 to 85 degC, 8-pin SOIC (D), Green (RoHS & no Sb/Br); Manufacturer: Texas Instruments; PartNumber: TPS3306-25DRG4; # of supplies monitored: 2; Iq(Typ)(uA): 15; Output Driver Type / Reset Output: Active-low, Open-drain; Rating: Catalog; Reset Threshold Accuracy(%): 2.7; SubFamily: Supervisor and Reset IC; Threshold Voltage 1 (typ)(Typ)(V): 2.93; Threshold Voltage 2 (typ)(Typ)(V): 2.25; Time Delay(ms): 100; VCC(Max)(V): 6; Watchdog Timer WDI(sec): 0.8; DatasheetVersion: SLVS290C; PackageVersion: revM, Jun-2011; PackageReference: D8; PackageDescription: 8-Pin Plastic Small Outline Integrated Circuit, 4.9 x 3.9 mm, Pitch 1.27 mm Pitch; Supplier 1: Digi-Key; Supplier Part Number 1: TPS3306-25DRG4-ND; Supplier 2: Newark; Supplier Part Number 2: 33K7603; Supplier 3: Mouser; Supplier Part Number 3: 595-TPS3306-25DRG4; VCC(Min)(V): 2.7; Mounting Technology: Surface Mount; Code_JEDEC: MS-012AA; ComponentLink1Description: Datasheet; ComponentLink1URL: http://www.ti.com/general/docs/lit/getliterature.tsp?genericPartNumber=TPS3306-25&fileType=pdf
footprint D8_N (SOIC, 8-Leads, Body 4.9x3.9mm, Pitch 1.27mm, IPC Medium Density)
footprint D8_L (SOIC, 8-Leads, Body 4.9x3.9mm, Pitch 1.27mm, IPC High Density)
footprint D8_M (SOIC, 8-Leads, Body 4.9x3.9mm, Pitch 1.27mm, IPC Low Density)
pins: 1 SENSE1 (in) "Sense voltage input 1", 2 SENSE2 (in) "Sense voltage input 2", 3 PFI (in) "Power-fail comparator input", 4 GND (power) "Ground", 5 ~{RESET} (oc) "Active-low reset output, open-drain", 6 ~{PFO} (oc) "Power-fail comparator output, open-drain", 7 WDI (in) "Watchdog timer input", 8 VDD (power) "Supply voltage"

## TPS3306-25QDRG4Q1
designator U?
Automotive Catalog Dual Processor Supervisory Circuit with Power-Fail, 2 Supply Monitored, -40 to 125 degC, 8-pin SOIC (D), Green (RoHS & no Sb/Br); Manufacturer: Texas Instruments; PartNumber: TPS3306-25QDRG4Q1; # of supplies monitored: 2; Iq(Typ)(uA): 15; Output Driver Type / Reset Output: Active-low, Open-drain; Reset Threshold Accuracy(%): 2.7; SubFamily: Supervisor and Reset IC; Threshold Voltage 1 (typ)(Typ)(V): 2.93; Threshold Voltage 2 (typ)(Typ)(V): 2.25; Time Delay(ms): 100; VCC(Max)(V): 6; Watchdog Timer WDI(sec): 0.8; DatasheetVersion: SGLS241B; PackageVersion: revM, Jun-2011; PackageReference: D8; PackageDescription: 8-Pin Plastic Small Outline Integrated Circuit, 4.9 x 3.9 mm, Pitch 1.27 mm Pitch; Supplier 1: Digi-Key; Supplier Part Number 1: TPS3306-25QDRG4Q1-ND; Supplier 2: Mouser; Supplier Part Number 2: 595-TPS330625QDRG4Q1; Rating: Automotive; VCC(Min)(V): 2.7; Mounting Technology: Surface Mount; Code_JEDEC: MS-012AA; ComponentLink1Description: Datasheet; ComponentLink1URL: http://www.ti.com/general/docs/lit/getliterature.tsp?genericPartNumber=TPS3306-25-Q1&fileType=pdf
footprint D8_N (SOIC, 8-Leads, Body 4.9x3.9mm, Pitch 1.27mm, IPC Medium Density)
footprint D8_L (SOIC, 8-Leads, Body 4.9x3.9mm, Pitch 1.27mm, IPC High Density)
footprint D8_M (SOIC, 8-Leads, Body 4.9x3.9mm, Pitch 1.27mm, IPC Low Density)
pins: 1 SENSE1 (in) "Sense voltage 1.", 2 SENSE2 (in) "Sense voltage 2.", 3 PFI (in) "Power-fail comparator input.", 4 GND (power) "Ground.", 5 ~{RESET} (oc) "Active-low reset output, open drain.", 6 ~{PFO} (oc) "Power-fail comparator output, open drain.", 7 WDI (in) "Watchdog timer input.", 8 VDD (power) "Supply voltage."

## TPS3306-25QDRQ1
designator U?
Automotive Catalog Dual Processor Supervisory Circuit with Power-Fail, 2 Supply Monitored, -40 to 125 degC, 8-pin SOIC (D); Manufacturer: Texas Instruments; PartNumber: TPS3306-25QDRQ1; # of supplies monitored: 2; Iq(Typ)(uA): 15; Output Driver Type / Reset Output: Active-low, Open-drain; Reset Threshold Accuracy(%): 2.7; SubFamily: Supervisor and Reset IC; Threshold Voltage 1 (typ)(Typ)(V): 2.93; Threshold Voltage 2 (typ)(Typ)(V): 2.25; Time Delay(ms): 100; VCC(Max)(V): 6; Watchdog Timer WDI(sec): 0.8; DatasheetVersion: SGLS241B; PackageVersion: revM, Jun-2011; PackageReference: D8; PackageDescription: 8-Pin Plastic Small Outline Integrated Circuit, 4.9 x 3.9 mm, Pitch 1.27 mm Pitch; Supplier 1: Digi-Key; Supplier Part Number 1: TPS3306-25QDRQ1-ND; Supplier 2: Mouser; Supplier Part Number 2: 595-TPS3306-25QDRQ1; Rating: Automotive; VCC(Min)(V): 2.7; Mounting Technology: Surface Mount; Code_JEDEC: MS-012AA; ComponentLink1Description: Datasheet; ComponentLink1URL: http://www.ti.com/general/docs/lit/getliterature.tsp?genericPartNumber=TPS3306-25-Q1&fileType=pdf
footprint D8_N (SOIC, 8-Leads, Body 4.9x3.9mm, Pitch 1.27mm, IPC Medium Density)
footprint D8_L (SOIC, 8-Leads, Body 4.9x3.9mm, Pitch 1.27mm, IPC High Density)
footprint D8_M (SOIC, 8-Leads, Body 4.9x3.9mm, Pitch 1.27mm, IPC Low Density)
pins: 1 SENSE1 (in) "Sense voltage 1.", 2 SENSE2 (in) "Sense voltage 2.", 3 PFI (in) "Power-fail comparator input.", 4 GND (power) "Ground.", 5 ~{RESET} (oc) "Active-low reset output, open drain.", 6 ~{PFO} (oc) "Power-fail comparator output, open drain.", 7 WDI (in) "Watchdog timer input.", 8 VDD (power) "Supply voltage."

## TPS3306-33D
designator U?
Dual-Processor Supervisory Circuit with Power-Fail, 2 Supply Monitored, -40 to 85 degC, 8-pin SOIC (D), Green (RoHS & no Sb/Br); Manufacturer: Texas Instruments; PartNumber: TPS3306-33D; # of supplies monitored: 2; Iq(Typ)(uA): 15; Output Driver Type / Reset Output: Active-low, Open-drain; Rating: Catalog; Reset Threshold Accuracy(%): 2.7; SubFamily: Supervisor and Reset IC; Threshold Voltage 1 (typ)(Typ)(V): 4.55; Threshold Voltage 2 (typ)(Typ)(V): 2.93; Time Delay(ms): 100; VCC(Max)(V): 6; Watchdog Timer WDI(sec): 0.8; DatasheetVersion: SLVS290C; PackageVersion: revM, Jun-2011; PackageReference: D8; PackageDescription: 8-Pin Plastic Small Outline Integrated Circuit, 4.9 x 3.9 mm, Pitch 1.27 mm Pitch; Supplier 1: Digi-Key; Supplier Part Number 1: 296-3310-5-ND; Supplier 2: Newark; Supplier Part Number 2: 77C0319; Supplier 3: Mouser; Supplier Part Number 3: 595-TPS3306-33D; VCC(Min)(V): 2.7; Mounting Technology: Surface Mount; Code_JEDEC: MS-012AA; ComponentLink1Description: Datasheet; ComponentLink1URL: http://www.ti.com/general/docs/lit/getliterature.tsp?genericPartNumber=TPS3306-33&fileType=pdf
footprint D8_N (SOIC, 8-Leads, Body 4.9x3.9mm, Pitch 1.27mm, IPC Medium Density)
footprint D8_L (SOIC, 8-Leads, Body 4.9x3.9mm, Pitch 1.27mm, IPC High Density)
footprint D8_M (SOIC, 8-Leads, Body 4.9x3.9mm, Pitch 1.27mm, IPC Low Density)
pins: 1 SENSE1 (in) "Sense voltage input 1", 2 SENSE2 (in) "Sense voltage input 2", 3 PFI (in) "Power-fail comparator input", 4 GND (power) "Ground", 5 ~{RESET} (oc) "Active-low reset output, open-drain", 6 ~{PFO} (oc) "Power-fail comparator output, open-drain", 7 WDI (in) "Watchdog timer input", 8 VDD (power) "Supply voltage"

## TPS3306-33DG4
designator U?
Dual-Processor Supervisory Circuit with Power-Fail, 2 Supply Monitored, -40 to 85 degC, 8-pin SOIC (D), Green (RoHS & no Sb/Br); Manufacturer: Texas Instruments; PartNumber: TPS3306-33DG4; # of supplies monitored: 2; Iq(Typ)(uA): 15; Output Driver Type / Reset Output: Active-low, Open-drain; Rating: Catalog; Reset Threshold Accuracy(%): 2.7; SubFamily: Supervisor and Reset IC; Threshold Voltage 1 (typ)(Typ)(V): 4.55; Threshold Voltage 2 (typ)(Typ)(V): 2.93; Time Delay(ms): 100; VCC(Max)(V): 6; Watchdog Timer WDI(sec): 0.8; DatasheetVersion: SLVS290C; PackageVersion: revM, Jun-2011; PackageReference: D8; PackageDescription: 8-Pin Plastic Small Outline Integrated Circuit, 4.9 x 3.9 mm, Pitch 1.27 mm Pitch; Supplier 1: Digi-Key; Supplier Part Number 1: TPS3306-33DG4-ND; Supplier 2: Newark; Supplier Part Number 2: 58K6915; Supplier 3: Mouser; Supplier Part Number 3: 595-TPS3306-33DG4; VCC(Min)(V): 2.7; Mounting Technology: Surface Mount; Code_JEDEC: MS-012AA; ComponentLink1Description: Datasheet; ComponentLink1URL: http://www.ti.com/general/docs/lit/getliterature.tsp?genericPartNumber=TPS3306-33&fileType=pdf
footprint D8_N (SOIC, 8-Leads, Body 4.9x3.9mm, Pitch 1.27mm, IPC Medium Density)
footprint D8_L (SOIC, 8-Leads, Body 4.9x3.9mm, Pitch 1.27mm, IPC High Density)
footprint D8_M (SOIC, 8-Leads, Body 4.9x3.9mm, Pitch 1.27mm, IPC Low Density)
pins: 1 SENSE1 (in) "Sense voltage input 1", 2 SENSE2 (in) "Sense voltage input 2", 3 PFI (in) "Power-fail comparator input", 4 GND (power) "Ground", 5 ~{RESET} (oc) "Active-low reset output, open-drain", 6 ~{PFO} (oc) "Power-fail comparator output, open-drain", 7 WDI (in) "Watchdog timer input", 8 VDD (power) "Supply voltage"

## TPS3306-33DGK
designator U?
Dual-Processor Supervisory Circuit with Power-Fail, 2 Supply Monitored, -40 to 85 degC, 8-pin VSSOP (DGK), Green (RoHS & no Sb/Br); Manufacturer: Texas Instruments; PartNumber: TPS3306-33DGK; # of supplies monitored: 2; Iq(Typ)(uA): 15; Output Driver Type / Reset Output: Active-low, Open-drain; Rating: Catalog; Reset Threshold Accuracy(%): 2.7; SubFamily: Supervisor and Reset IC; Threshold Voltage 1 (typ)(Typ)(V): 4.55; Threshold Voltage 2 (typ)(Typ)(V): 2.93; Time Delay(ms): 100; VCC(Max)(V): 6; Watchdog Timer WDI(sec): 0.8; DatasheetVersion: SLVS290C; PackageVersion: revE, May-2006; PackageReference: DGK8; PackageDescription: 8-Pin Thin Small Outline Package 3 x 3 mm Body ,0.65 mm Pitch; Supplier 1: Digi-Key; Supplier Part Number 1: 296-3311-5-ND; Supplier 2: Newark; Supplier Part Number 2: 77C0320; Supplier 3: Mouser; Supplier Part Number 3: 595-TPS3306-33DGK; VCC(Min)(V): 2.7; Mounting Technology: Surface Mount; Code_JEDEC: MO-187-AA; ComponentLink1Description: Datasheet; ComponentLink1URL: http://www.ti.com/general/docs/lit/getliterature.tsp?genericPartNumber=TPS3306-33&fileType=pdf
footprint DGK8_N (TSOP, 8-Leads, Body 3x3mm, Pitch 0.65mm, IPC Medium Density)
footprint DGK8_L (TSOP, 8-Leads, Body 3x3mm, Pitch 0.65mm, IPC High Density)
footprint DGK8_M (TSOP, 8-Leads, Body 3x3mm, Pitch 0.65mm, IPC Low Density)
pins: 1 SENSE1 (in) "Sense voltage input 1", 2 SENSE2 (in) "Sense voltage input 2", 3 PFI (in) "Power-fail comparator input", 4 GND (power) "Ground", 5 ~{RESET} (oc) "Active-low reset output, open-drain", 6 ~{PFO} (oc) "Power-fail comparator output, open-drain", 7 WDI (in) "Watchdog timer input", 8 VDD (power) "Supply voltage"

## TPS3306-33DGKG4
designator U?
Dual-Processor Supervisory Circuit with Power-Fail, 2 Supply Monitored, -40 to 85 degC, 8-pin VSSOP (DGK), Green (RoHS & no Sb/Br); Manufacturer: Texas Instruments; PartNumber: TPS3306-33DGKG4; # of supplies monitored: 2; Iq(Typ)(uA): 15; Output Driver Type / Reset Output: Active-low, Open-drain; Rating: Catalog; Reset Threshold Accuracy(%): 2.7; SubFamily: Supervisor and Reset IC; Threshold Voltage 1 (typ)(Typ)(V): 4.55; Threshold Voltage 2 (typ)(Typ)(V): 2.93; Time Delay(ms): 100; VCC(Max)(V): 6; Watchdog Timer WDI(sec): 0.8; DatasheetVersion: SLVS290C; PackageVersion: revE, May-2006; PackageReference: DGK8; PackageDescription: 8-Pin Thin Small Outline Package 3 x 3 mm Body ,0.65 mm Pitch; Supplier 1: Digi-Key; Supplier Part Number 1: TPS3306-33DGKG4-ND; Supplier 2: Newark; Supplier Part Number 2: 99K4401; Supplier 3: Mouser; Supplier Part Number 3: 595-TPS3306-33DGKG4; VCC(Min)(V): 2.7; Mounting Technology: Surface Mount; Code_JEDEC: MO-187-AA; ComponentLink1Description: Datasheet; ComponentLink1URL: http://www.ti.com/general/docs/lit/getliterature.tsp?genericPartNumber=TPS3306-33&fileType=pdf
footprint DGK8_N (TSOP, 8-Leads, Body 3x3mm, Pitch 0.65mm, IPC Medium Density)
footprint DGK8_L (TSOP, 8-Leads, Body 3x3mm, Pitch 0.65mm, IPC High Density)
footprint DGK8_M (TSOP, 8-Leads, Body 3x3mm, Pitch 0.65mm, IPC Low Density)
pins: 1 SENSE1 (in) "Sense voltage input 1", 2 SENSE2 (in) "Sense voltage input 2", 3 PFI (in) "Power-fail comparator input", 4 GND (power) "Ground", 5 ~{RESET} (oc) "Active-low reset output, open-drain", 6 ~{PFO} (oc) "Power-fail comparator output, open-drain", 7 WDI (in) "Watchdog timer input", 8 VDD (power) "Supply voltage"